# EAGLE library part ATLSCI_DO (library cond)
Atlas Scientific Micro footprint Dissolved Oxygen monitoring circuit
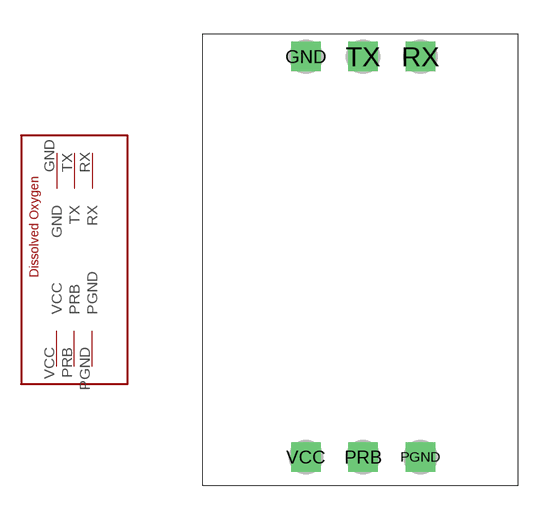
[diagram p0: symbol with the pads of ATLAS_SCI_DO; footprint ATLAS_SCI_DO]

Designator prefix ATLSCI_DO

## ATLSCI_DO  [ATLAS_SCI_DO]
GND  GND
PGND  PGND
PRB  PRB
RX  RX
TX  TX
VCC  VCC

## Footprint ATLAS_SCI_DO (pad centres in mm)
drill 0.8 square: GND 0,17.78; PGND 5.08,0; PRB 2.54,0; RX 5.08,17.78; TX 2.54,17.78; VCC 0,0